# Altium schematic symbol library AP62250WU-7.SchLib: 1 symbol
Pins are listed as number, name and electrical type; pins without a type are passive.

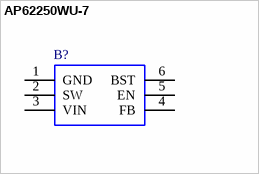
[diagram p0: symbol AP62250WU-7]

## AP62250WU-7
designator B?
DCDC CONV HV BUCK TSOT26 T&R 3K; Manufacturer_Name: Diodes Inc.; Geometry.Height: 1mm; Mouser Part Number: 621-AP62250WU-7; Mouser Price/Stock: https://www.mouser.co.uk/ProductDetail/Diodes-Incorporated/AP62250WU-7?qs=7MVldsJ5Uax1PUc8sdeimQ%3D%3D; Manufacturer_Part_Number: AP62250WU-7; Datasheet Link: https://www.diodes.com/assets/Datasheets/AP62250.pdf
footprint SOT95P280X100-6N
pins: 1 GND, 2 SW, 3 VIN, 4 FB, 5 EN, 6 BST